# Altium schematic symbol library ToneReal.SchLib: 6 symbols
Pins are listed as number, name and electrical type; pins without a type are passive.

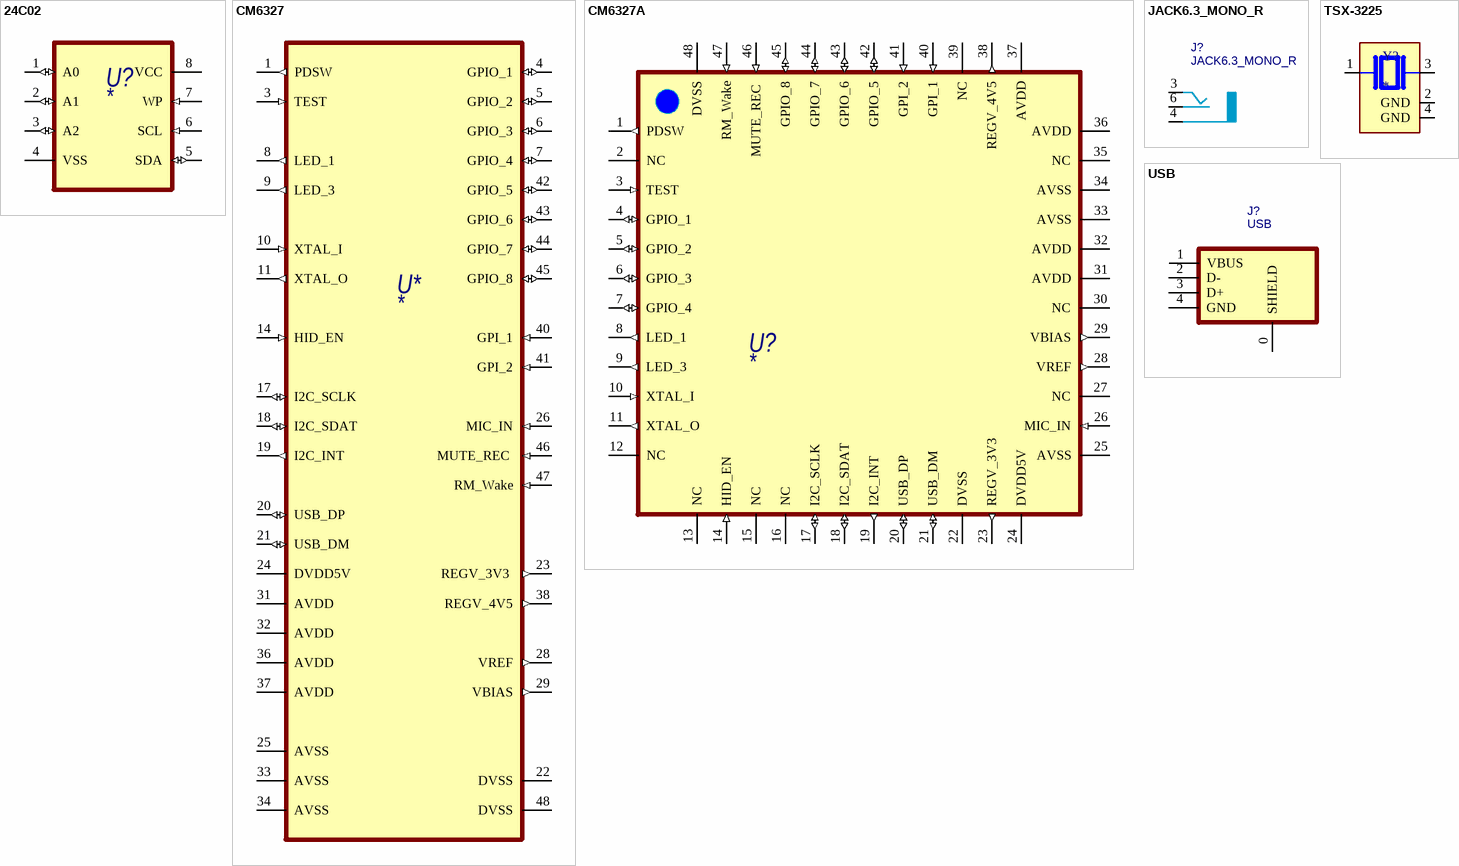
[diagram p0: symbols 24C02 to USB]

## 24C02
designator U?
footprint SOIC-8 (MAX522,SN65HVD11DR)
pins: 1 A0 (io), 2 A1 (io), 3 A2 (io), 4 VSS (power), 5 SDA (io), 6 SCL (in), 7 WP (in), 8 VCC (power)

## CM6327
designator U*
CM6327
footprint QFP50P900X900X160-48N
pins: 1 PDSW (out) "Power Down Switch Output   (0:Normal Operation; 1:Suspend)", 3 TEST (in) "Test Mode Select   (0:Normal Mode; 1:Test Mode)", 4 GPIO_1 (io) "General Purpose I/O Pin", 5 GPIO_2 (io) "General Purpose I/O Pin", 6 GPIO_3 (io) "General Purpose I/O Pin", 7 GPIO_4 (io) "General Purpose I/O Pin", 8 LED_1 (out) "LED (Play or Record)", 9 LED_3 (out) "LED (Mute Record)", 10 XTAL_I (in) "Input pin for 12MHz oscillator", 11 XTAL_O (out) "Output pin for 12MHz oscillator", 14 HID_EN (in) "HID bottom function enable  (0: Disable; 1: Enable)", 17 I2C_SCLK (io) "I2C serial clock/EEPROM 24c02 serial clock", 18 I2C_SDAT (io) "I2C serial data/EEPROM 24c02 serial data", 19 I2C_INT (out) "I2C interrupt output", 20 USB_DP (io) "USB D+", 21 USB_DM (io) "USB D-", 22 DVSS (power) "Digital ground", 23 REGV_3V3  (out) "5V->3.3V regulator output", 24 DVDD5V (power) "5V power supply to internal regulator", 25 AVSS (power) "Analog ground", 26 MIC_IN (in) "MIC input", 28 VREF (out) "2.25V reference voltage output", 29 VBIAS (out) "MIC bias voltage", 31 AVDD (power) "5V analog power for analog circuit", 32 AVDD (power) "5V analog power for analog circuit", 33 AVSS (power) "Analog ground", 34 AVSS (power) "Analog ground", 36 AVDD (power) "5V analog power for analog circuit", 37 AVDD (power) "5V analog power for analog circuit", 38 REGV_4V5 (out) "4.5V regulator output", 40 GPI_1 (in) "General purpose input pin (VU)", 41 GPI_2 (in) "General purpose input pin (VD)", 42 GPIO_5 (io) "General Purpose I/O Pin", 43 GPIO_6 (io) "General Purpose I/O Pin", 44 GPIO_7 (io) "General Purpose I/O Pin", 45 GPIO_8 (io) "General Purpose I/O Pin", 46 MUTE_REC  (in) "HID MIC Record Mute", 47 RM_Wake (in) "Remote wakeup pin to make PC resume from suspend", 48 DVSS (power) "Digital ground"

## CM6327A
designator U?
CM6327
footprint QFP50P900X900X160-48N
pins: 1 PDSW (out) "Power Down Switch Output   (0:Normal Operation; 1:Suspend)", 2 NC, 3 TEST (in) "Test Mode Select   (0:Normal Mode; 1:Test Mode)", 4 GPIO_1 (io) "General Purpose I/O Pin", 5 GPIO_2 (io) "General Purpose I/O Pin", 6 GPIO_3 (io) "General Purpose I/O Pin", 7 GPIO_4 (io) "General Purpose I/O Pin", 8 LED_1 (out) "LED (Play or Record)", 9 LED_3 (out) "LED (Mute Record)", 10 XTAL_I (in) "Input pin for 12MHz oscillator", 11 XTAL_O (out) "Output pin for 12MHz oscillator", 12 NC, 13 NC, 14 HID_EN (in) "HID bottom function enable  (0: Disable; 1: Enable)", 15 NC, 16 NC, 17 I2C_SCLK (io) "I2C serial clock/EEPROM 24c02 serial clock", 18 I2C_SDAT (io) "I2C serial data/EEPROM 24c02 serial data", 19 I2C_INT (out) "I2C interrupt output", 20 USB_DP (io) "USB D+", 21 USB_DM (io) "USB D-", 22 DVSS (power) "Digital ground", 23 REGV_3V3  (out) "5V->3.3V regulator output", 24 DVDD5V (power) "5V power supply to internal regulator", 25 AVSS (power) "Analog ground", 26 MIC_IN (in) "MIC input", 27 NC, 28 VREF (out) "2.25V reference voltage output", 29 VBIAS (out) "MIC bias voltage", 30 NC, 31 AVDD (power) "5V analog power for analog circuit", 32 AVDD (power) "5V analog power for analog circuit", 33 AVSS (power) "Analog ground", 34 AVSS (power) "Analog ground", 35 NC, 36 AVDD (power) "5V analog power for analog circuit", 37 AVDD (power) "5V analog power for analog circuit", 38 REGV_4V5 (out) "4.5V regulator output", 39 NC, 40 GPI_1 (in) "General purpose input pin (VU)", 41 GPI_2 (in) "General purpose input pin (VD)", 42 GPIO_5 (io) "General Purpose I/O Pin", 43 GPIO_6 (io) "General Purpose I/O Pin", 44 GPIO_7 (io) "General Purpose I/O Pin", 45 GPIO_8 (io) "General Purpose I/O Pin", 46 MUTE_REC  (in) "HID MIC Record Mute", 47 RM_Wake (in) "Remote wakeup pin to make PC resume from suspend", 48 DVSS (power) "Digital ground"

## JACK6.3_MONO_R
designator J?
6.3_jack_mono; spicePre: U; spiceSymbolName: JACK6.3_MONO_R
footprint JACK6.3
footprint JACK6.3
pins: 3 R_CH, 4 GND, 6 R_ch_closed "Информационный вход Х6"

## TSX-3225
designator Y?
3225; Value: *
footprint XTAL_3225
pins: 1, 2 GND (power), 3 2, 4 GND (power)

## USB
designator J?
BOM_Manufacturer: SOFNG; BOM_Manufacturer Part: USB-B01; Contributor: LCSC; BOM_Supplier: LCSC; BOM_Supplier Part: C498173; BOM_JLCPCB Part Class: Extended Part; spicePre: U; spiceSymbolName: USB-B01
footprint USBA_1PLAG
footprint USB-B
pins: 0 SHIELD "Информационный вход Х6", 1 VBUS, 2 D-, 3 D+, 4 GND